# EAGLE library part NEXPERIA_74HC138_QFN (library 3D_MIG_Controller)
2 inputs x 3 addres lines x 8 outputs address decoder.
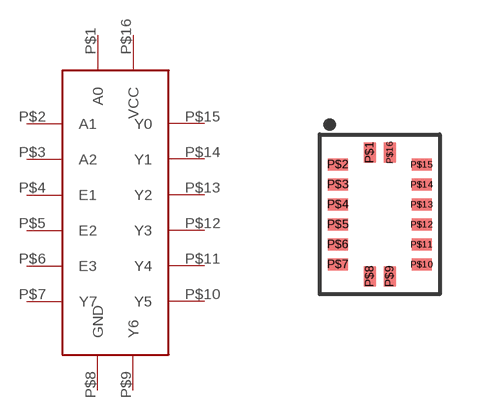
[diagram p87: symbol with the pads of 74HC138_QFN; footprint 74HC138_QFN]

Designator prefix U

## NEXPERIA_74HC138_QFN  [74HC138_QFN]
P$1  A0  in
P$2  A1  in
P$3  A2  in
P$4  E1  in
P$5  E2  in
P$6  E3  in
P$7  Y7  out
P$8  GND  pwr
P$9  Y6  out
P$10  Y5  out
P$11  Y4  out
P$12  Y3  out
P$13  Y2  out
P$14  Y1  out
P$15  Y0  out
P$16  VCC  pwr

## Footprint 74HC138_QFN (pad centres in mm)
smd 0.3 x 0.5: P$1 -0.25,1.55; P$8 -0.25,-1.55; P$9 0.25,-1.55; P$16 0.25,1.55
smd 0.5 x 0.3: P$2 -1.05,1.25; P$3 -1.05,0.75; P$4 -1.05,0.25; P$5 -1.05,-0.25; P$6 -1.05,-0.75; P$7 -1.05,-1.25; P$10 1.05,-1.25; P$11 1.05,-0.75; P$12 1.05,-0.25; P$13 1.05,0.25; P$14 1.05,0.75; P$15 1.05,1.25